# Altium schematic symbol library SCH - MCU - STM32 - ST MICROELECTRONICS STM32G041K(6-8)TX LQFP32.SchLib: 1 symbol
Pins are listed as number, name and electrical type; pins without a type are passive.

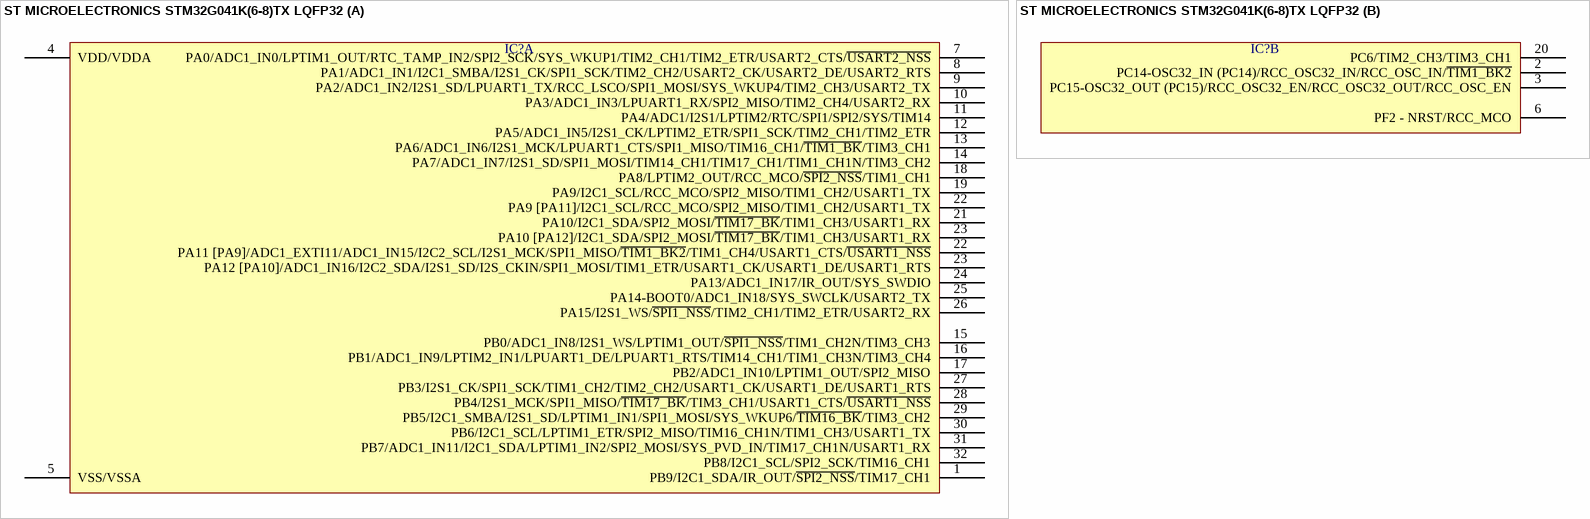
[diagram p0: symbol ST MICROELECTRONICS STM32G041K(6-8)TX LQFP32]

## ST MICROELECTRONICS STM32G041K(6-8)TX LQFP32
designator IC?  (value not drawn)
part A pins: 1 PB9/I2C1_SDA/IR_OUT/~{SPI2_NSS}/TIM17_CH1, 4 VDD/VDDA, 5 VSS/VSSA, 7 PA0/ADC1_IN0/LPTIM1_OUT/RTC_TAMP_IN2/SPI2_SCK/SYS_WKUP1/TIM2_CH1/TIM2_ETR/USART2_CTS/~{USART2_NSS}, 8 PA1/ADC1_IN1/I2C1_SMBA/I2S1_CK/SPI1_SCK/TIM2_CH2/USART2_CK/USART2_DE/USART2_RTS, 9 PA2/ADC1_IN2/I2S1_SD/LPUART1_TX/RCC_LSCO/SPI1_MOSI/SYS_WKUP4/TIM2_CH3/USART2_TX, 10 PA3/ADC1_IN3/LPUART1_RX/SPI2_MISO/TIM2_CH4/USART2_RX, 11 PA4/ADC1/I2S1/LPTIM2/RTC/SPI1/SPI2/SYS/TIM14, 12 PA5/ADC1_IN5/I2S1_CK/LPTIM2_ETR/SPI1_SCK/TIM2_CH1/TIM2_ETR, 13 PA6/ADC1_IN6/I2S1_MCK/LPUART1_CTS/SPI1_MISO/TIM16_CH1/~{TIM1_BK}/TIM3_CH1, 14 PA7/ADC1_IN7/I2S1_SD/SPI1_MOSI/TIM14_CH1/TIM17_CH1/TIM1_CH1N/TIM3_CH2, 15 PB0/ADC1_IN8/I2S1_WS/LPTIM1_OUT/~{SPI1_NSS}/TIM1_CH2N/TIM3_CH3, 16 PB1/ADC1_IN9/LPTIM2_IN1/LPUART1_DE/LPUART1_RTS/TIM14_CH1/TIM1_CH3N/TIM3_CH4, 17 PB2/ADC1_IN10/LPTIM1_OUT/SPI2_MISO, 18 PA8/LPTIM2_OUT/RCC_MCO/~{SPI2_NSS}/TIM1_CH1, 19 PA9/I2C1_SCL/RCC_MCO/SPI2_MISO/TIM1_CH2/USART1_TX, 21 PA10/I2C1_SDA/SPI2_MOSI/~{TIM17_BK}/TIM1_CH3/USART1_RX, 22 PA9 [PA11]/I2C1_SCL/RCC_MCO/SPI2_MISO/TIM1_CH2/USART1_TX, 22 PA11 [PA9]/ADC1_EXTI11/ADC1_IN15/I2C2_SCL/I2S1_MCK/SPI1_MISO/~{TIM1_BK2}/TIM1_CH4/USART1_CTS/~{USART1_NSS}, 23 PA10 [PA12]/I2C1_SDA/SPI2_MOSI/~{TIM17_BK}/TIM1_CH3/USART1_RX, 23 PA12 [PA10]/ADC1_IN16/I2C2_SDA/I2S1_SD/I2S_CKIN/SPI1_MOSI/TIM1_ETR/USART1_CK/USART1_DE/USART1_RTS, 24 PA13/ADC1_IN17/IR_OUT/SYS_SWDIO, 25 PA14-BOOT0/ADC1_IN18/SYS_SWCLK/USART2_TX, 26 PA15/I2S1_WS/~{SPI1_NSS}/TIM2_CH1/TIM2_ETR/USART2_RX, 27 PB3/I2S1_CK/SPI1_SCK/TIM1_CH2/TIM2_CH2/USART1_CK/USART1_DE/USART1_RTS, 28 PB4/I2S1_MCK/SPI1_MISO/~{TIM17_BK}/TIM3_CH1/USART1_CTS/~{USART1_NSS}, 29 PB5/I2C1_SMBA/I2S1_SD/LPTIM1_IN1/SPI1_MOSI/SYS_WKUP6/~{TIM16_BK}/TIM3_CH2, 30 PB6/I2C1_SCL/LPTIM1_ETR/SPI2_MISO/TIM16_CH1N/TIM1_CH3/USART1_TX, 31 PB7/ADC1_IN11/I2C1_SDA/LPTIM1_IN2/SPI2_MOSI/SYS_PVD_IN/TIM17_CH1N/USART1_RX, 32 PB8/I2C1_SCL/SPI2_SCK/TIM16_CH1
part B pins: 2 PC14-OSC32_IN (PC14)/RCC_OSC32_IN/RCC_OSC_IN/~{TIM1_BK2}, 3 PC15-OSC32_OUT (PC15)/RCC_OSC32_EN/RCC_OSC32_OUT/RCC_OSC_EN, 6 PF2 - NRST/RCC_MCO, 20 PC6/TIM2_CH3/TIM3_CH1